# Altium schematic symbol library 0.5 - 场效应管-可控硅.SchLib: 27 symbols
Pins are listed as number, name and electrical type; pins without a type are passive.

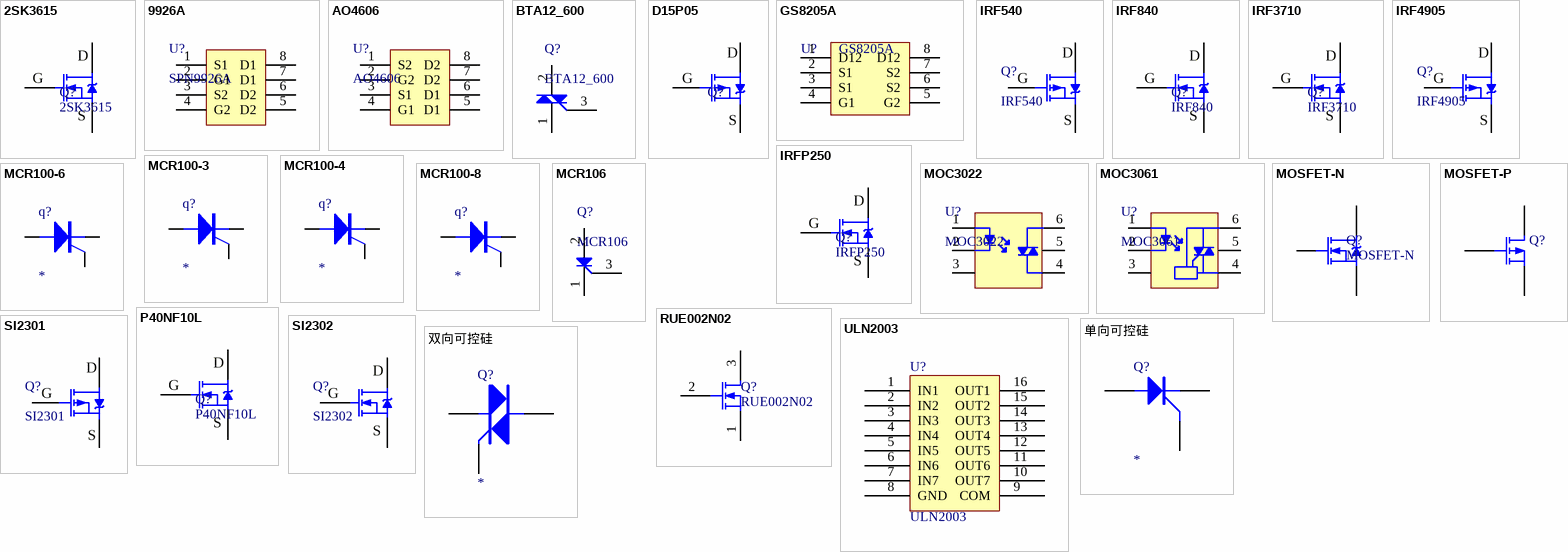
[diagram p0: symbols 2SK3615 to 双向可控硅]

## 2SK3615
designator Q?
N沟场效应管; 技术支持，联系售后: 其他店铺购入均为盗版，不享受售后技术支持服务，请立即申请退款; BOM名称: N沟场效应管; 学习资源: https://shop463601444.taobao.com
footprint TO252 (252晶体管)
footprint TO220A (220，3脚晶体管)
footprint TO220B (220，3脚晶体管)
footprint TO220C (220，3脚晶体管)
pins: 1 G, 2 D, 3 S

## 9926A
designator U?, comment SPN9926A
组合对场效应管; 技术支持，联系售后: 其他店铺购入均为盗版，不享受售后技术支持服务，请立即申请退款; BOM名称: 组合对场效应管; 学习资源: https://shop463601444.taobao.com
footprint SOP8_L (5*6*1.8mm（长宽高）)
footprint SOP8_M (5*6*1.8mm（长宽高）)
footprint SOP8_N (5*6*1.8mm（长宽高）)
pins: 1 S1, 2 G1, 3 S2, 4 G2, 5 D2, 6 D2, 7 D1, 8 D1

## AO4606
designator U?
组合对场效应管; BOM名称: 组合对场效应管; 学习资源: https://shop463601444.taobao.com
footprint SOP8_L (5*6*1.8mm（长宽高）)
footprint SOP8_M (5*6*1.8mm（长宽高）)
footprint SOP8_N (5*6*1.8mm（长宽高）)
pins: 1 S2, 2 G2, 3 S1, 4 G1, 5 D1, 6 D1, 7 D2, 8 D2

## BTA12_600
designator Q?
双向可控硅; BOM名称: 双向可控硅; 学习资源: https://shop463601444.taobao.com
footprint TO220A (220，3脚晶体管)
footprint TO220B (220，3脚晶体管)
footprint TO252 (252晶体管)
footprint TO220C (220，3脚晶体管)
pins: 1 A1, 2 A2, 3 G

## D15P05
designator Q?  (value not drawn)
P沟道场效应管; 版权归属: 封装库来自淘宝卖家 ID：黄晶宝石; BOM名称: P沟道场效应管; 学习资源: https://shop463601444.taobao.com
footprint TO252 (252晶体管)
footprint TO220A (220，3脚晶体管)
footprint TO220B (220，3脚晶体管)
footprint TO220C (220，3脚晶体管)
pins: 1 G, 2 D, 3 S

## GS8205A
designator U?
N沟道增强型功率场效应管; BOM名称: 场效应管; 技术支持，联系售后: 封装库来自淘宝卖家 ID：黄晶宝石; 版权归属: 源创客
footprint SSOP8_N (3*6.4*1.2mm（长宽高）)
footprint SSOP8_L (3*6.4*1.2mm（长宽高）)
footprint SSOP8_M (3*6.4*1.2mm（长宽高）)
pins: 1 D12, 2 S1, 3 S1, 4 G1, 5 G2, 6 S2, 7 S2, 8 D12

## IRF540
designator Q?
P沟场效应管; BOM名称: P沟场效应管; 技术支持，联系售后: https://shop463601444.taobao.com
footprint TO263-3A (263，3脚晶体管)
footprint TO263-3B (263，3脚晶体管)
pins: 1 G, 2 D, 3 S

## IRF840
designator Q?
N沟场效应管; BOM名称: N沟场效应管; 技术支持，联系售后: https://shop463601444.taobao.com
footprint TO220A (220，3脚晶体管)
footprint TO220B (220，3脚晶体管)
footprint TO220C (220，3脚晶体管)
pins: 1 G, 2 D, 3 S

## IRF3710
designator Q?
N沟场效应管; 版权归属: 封装库来自淘宝 ID：黄晶宝石; BOM名称: N沟场效应管; 技术支持，联系售后: https://shop463601444.taobao.com
footprint TO252 (252晶体管)
footprint TO220A (220，3脚晶体管)
footprint TO220B (220，3脚晶体管)
footprint TO220C (220，3脚晶体管)
pins: 1 G, 2 D, 3 S

## IRF4905
designator Q?
P沟场效应管; 版权归属: 封装库来自淘宝卖家 ID：黄晶宝石; BOM名称: P沟场效应管; 技术支持，联系售后: https://shop463601444.taobao.com
footprint TO220A (220，3脚晶体管)
footprint TO220B (220，3脚晶体管)
footprint TO220C (220，3脚晶体管)
pins: 1 G, 2 D, 3 S

## IRFP250
designator Q?
功率型N沟场效应管; 版权归属: 封装库来自淘宝卖家 ID：黄晶宝石; BOM名称: 功率型N沟场效应管; 学习资源: https://shop463601444.taobao.com
footprint TO247A (247，3脚晶体管)
footprint TO247b (247，3脚晶体管)
pins: 1 G, 2 D, 3 S

## MCR100-3
designator q?
0.3A单向可控硅
simulation model MCR100-3 (SUBCKT)
pins: 1 A, 2 G, 3 K
1 alternate drawing of the same symbol

## MCR100-4
designator q?
0.4A单向可控硅
simulation model MCR100-4 (SUBCKT)
pins: 1 A, 2 G, 3 K
1 alternate drawing of the same symbol

## MCR100-6
designator q?
0.6A单向可控硅; 技术支持，联系售后: 封装库来自淘宝卖家 ID：黄晶宝石
simulation model MCR100-6 (SUBCKT)
pins: 1 A, 2 G, 3 K
1 alternate drawing of the same symbol

## MCR100-8
designator q?
0.8A单向可控硅; 技术支持，联系售后: 封装库来自淘宝 ID：黄晶宝石; 欢迎光临: https://shop463601444.taobao.com
simulation model MCR100-8 (SUBCKT)
pins: 1 A, 2 G, 3 K
1 alternate drawing of the same symbol

## MCR106
designator Q?
单向可控硅; BOM名称: 单向可控硅; 学习资源: https://shop463601444.taobao.com
footprint TO126 (126晶体管)
pins: 1 K, 2 A, 3 G

## MOC3022
designator U?
光可控硅; 版权归属: 源创客; BOM名称: 光可控硅; 学习资源: www.ooocke.com
footprint DIP6-300 (6.8*7.6*3.8(长宽高）)
pins: 1 +, 2 -, 3 NC, 4, 5, 6

## MOC3061
designator U?
零点触发光可控硅; BOM名称: 光可控硅; 版权归属: 源创客; 学习资源: www.ooocke.com
footprint DIP6-300 (6.8*7.6*3.8(长宽高）)
pins: 1 +, 2 -, 3 NC, 4, 5, 6

## MOSFET-N
designator Q?
N-Channel MOSFET; PackageDocument: 1995/1996; Published: 8-Jun-2000; LatestRevisionDate: 17-Jul-2002; LatestRevisionNote: Re-released for DXP Platform.; PackageReference: E3; Publisher: Altium Limited
footprint TO-220AB (TO, Thru-Hole, Vertical, Heatsink Mounted; 3 In-Line Leads; Pitch 2.54 mm)
pins: D, G, S

## MOSFET-P
designator Q?  (value not drawn)
P-Channel MOSFET; PackageDocument: 1995/1996; Published: 8-Jun-2000; LatestRevisionDate: 17-Jul-2002; LatestRevisionNote: Re-released for DXP Platform.; PackageReference: E3; Publisher: Altium Limited
footprint TO-220AB (TO, Thru-Hole, Vertical, Heatsink Mounted; 3 In-Line Leads; Pitch 2.54 mm)
pins: D, G, S

## P40NF10L
designator Q?
N沟场效应管; 版权归属: 源创客; BOM名称: N沟场效应管; 学习资源: www.ooocke.com
footprint TO252 (252晶体管)
footprint TO220A (220，3脚晶体管)
footprint TO220B (220，3脚晶体管)
footprint TO220C (220，3脚晶体管)
pins: 1 G, 2 D, 3 S

## RUE002N02
designator Q?
低功耗MOSFET; Published: 8-Jun-2000; LatestRevisionDate: 17-Jul-2002; LatestRevisionNote: Re-released for DXP Platform.; PackageVersion: 1995/1996; PackageReference: E3; Publisher: Altium Limited
footprint SOT-416
pins: 1 S, 2 G, 3 D

## SI2301
designator Q?
P沟道场效应管; 技术支持，联系售后: 封装库来自淘宝 ID：黄晶宝石; BOM名称: P沟道场效应管; 学习资源: https://shop463601444.taobao.com
footprint SOT23-3N (3x1.3x1mm(长宽高))
footprint SOT23-3L (3x1.3x1mm(长宽高))
footprint SOT23-3M (3x1.3x1mm(长宽高))
pins: 1 G, 2 S, 3 D

## SI2302
designator Q?
N沟道场效应管; 技术支持，联系售后: 封装库来自淘宝 ID：黄晶宝石; BOM名称: N沟道场效应管; 学习资源: https://shop463601444.taobao.com
footprint SOT23-3N (3x1.3x1mm(长宽高))
footprint SOT23-3L (3x1.3x1mm(长宽高))
footprint SOT23-3M (3x1.3x1mm(长宽高))
pins: 1 G, 2 S, 3 D

## ULN2003
designator U?
达林顿晶体管阵列; BOM名称: 达林顿晶体管阵列
footprint SOP16
footprint SOP16-W2.54_L (6.5*19.82*3.5mm（长宽高）封装库来自淘宝ID：黄晶宝石)
footprint SOP16-W2.54_M (6.5*19.82*3.5mm（长宽高）封装库来自淘宝ID：黄晶宝石)
footprint SOP16-W2.54_N (6.5*19.82*3.5mm（长宽高）)
pins: 1 IN1, 2 IN2, 3 IN3, 4 IN4, 5 IN5, 6 IN6, 7 IN7, 8 GND, 9 COM, 10 OUT7, 11 OUT6, 12 OUT5, 13 OUT4, 14 OUT3, 15 OUT2, 16 OUT1

## 单向可控硅
designator Q?
技术支持，联系售后: 封装库来自淘宝 ID：黄晶宝石; 欢迎光临: https://shop463601444.taobao.com
pins: 1 A, 2 K, 3 G

## 双向可控硅
designator Q?
技术支持，联系售后: 封装库来自淘宝 ID：黄晶宝石; 技术支持，联系售后: 其他店铺购入均为盗版，不享受售后技术支持服务，请立即申请退款; 欢迎光临: https://shop463601444.taobao.com
pins: 1 T, 2 T, 3 G